# Altium footprint library WB-AV-4510-DAQ.PcbLib: 6 footprints
Each footprint in its own frame and in the unit in brackets; x right, y up, seen from the top. Pads: shape width x height; smd on the part's side, far side on the other; paste and mask are expansions set on the pad; w line width, h text height; cw(c..) or ccw(c..) is an arc to the next point about the centre after c.
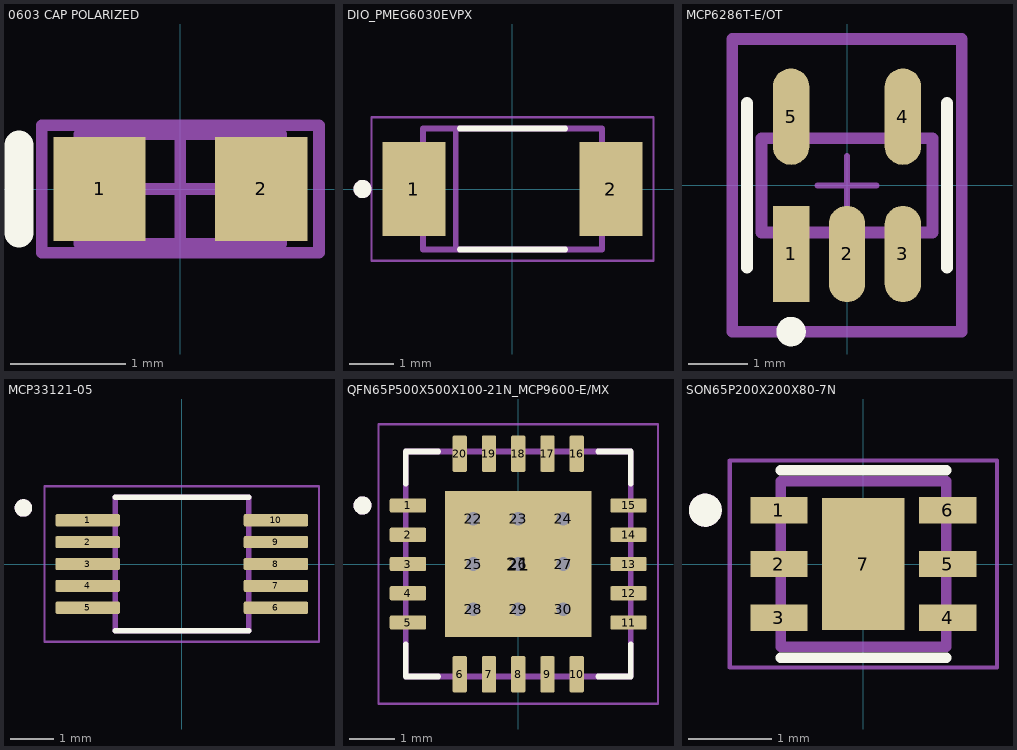
[diagram p0: the footprints below, top view; thin cyan lines are the x and y axes]

## 0603 CAP POLARIZED [mm] "Chip Capacitor, Body 1.6x0.8mm, IPC High Density"
height 1.3
pads (2):
  rect 0.8x0.9 smd: 1(-0.7,0) 2(0.7,0)
Top Overlay:
  lines w0.254: -1.397,-0.381 -1.397,0.381
Mechanical 13:
  lines w0.1: -0.875,-0.475 0.875,-0.475 0.875,0.475 -0.875,0.475 -0.875,-0.475
Mechanical 15:
  lines w0.1: -0.475,0 0.475,0 ; 0,-0.475 0,0.475 ; -1.2,-0.55 1.2,-0.55 1.2,0.55 -1.2,0.55 -1.2,-0.55
3D body: height 1.3, standoff 0, extent -0.875,-0.475 0.875,0.475

## DIO_PMEG6030EVPX [mm]
pads (2):
  rect 1.4x2.1 smd paste-2: 1(-2.2,0) 2(2.2,0)
Top Overlay:
  circle w0.2: c-3.35,0 r0.1
  lines w0.127: -1.18,-1.35 1.18,-1.35 ; -1.18,1.35 1.18,1.35
Top Paste:
  region: 2.8,-0.95 1.6,-0.95 1.6,0.95 2.8,0.95
  region: -1.6,-0.95 -2.8,-0.95 -2.8,0.95 -1.6,0.95
Mechanical 13:
  circle w0.2: c-3.35,0 r0.1
  lines w0.127: -1.27,-1.27 -1.27,1.27 ; -2,-1.35 2,-1.35 2,1.35 -2,1.35 -2,-1.35
Mechanical 15:
  lines w0.05: -3.15,-1.6 3.15,-1.6 3.15,1.6 -3.15,1.6 -3.15,-1.6

## MCP6286T-E/OT [mil]
pads (5):
  rect 24.33x64.5 smd paste+0 mask+0: 1(-37.4,-45.91)
  rrect100% 24.33x64.5 smd paste+0 mask+0: 2(0,-45.91) 3(37.4,-45.91) 4(37.4,45.91) 5(-37.4,45.91)
Top Overlay:
  circle w9.84: c-37.4,-97.85 r4.92
  lines w7.87: -66.93,-55.12 -66.93,55.12 ; 66.93,-55.12 66.93,55.12
Top 3D Body:
  lines w7.87: -57.09,-31.5 57.09,-31.5 57.09,31.5 -57.09,31.5 -57.09,-31.5
Top Courtyard:
  lines w7.87: -76.77,-97.85 76.77,-97.85 76.77,97.85 -76.77,97.85 -76.77,-97.85
Top Assembly:
  lines w7.87: -76.77,-97.85 76.77,-97.85 76.77,97.85 -76.77,97.85 -76.77,-97.85
Top Component Center:
  lines w3.94: -19.68,0 19.68,0 ; 0,-19.68 0,19.68
3D body "OT.STEP": height 57.09, standoff 0, extent -57.09,-53.15 57.09,53.15

## MCP33121-05 [mm]
pads (10):
  rrect25% 1.47x0.28 smd: 1(-2.15,1) 2(-2.15,0.5) 3(-2.15,0) 4(-2.15,-0.5) 5(-2.15,-1) 6(2.15,-1) 7(2.15,-0.5) 8(2.15,0) 9(2.15,0.5) 10(2.15,1)
Top Overlay:
  circle w0.2: c-3.62,1.28 r0.1
  lines w0.127: -1.525,-1.525 1.525,-1.525 ; -1.525,1.525 1.525,1.525
Mechanical 13:
  circle w0.2: c-3.62,1.28 r0.1
  lines w0.127: -1.525,-1.525 1.525,-1.525 1.525,1.525 -1.525,1.525 -1.525,-1.525
Mechanical 15:
  lines w0.05: -3.135,-1.775 3.135,-1.775 3.135,1.775 -3.135,1.775 -3.135,-1.775
3D body "msop-10.STEP": height 1.15, standoff 0, extent -2.45,-1.5 2.45,1.5

## QFN65P500X500X100-21N_MCP9600-E/MX [mm]
pads (30):
  rrect25% 0.81x0.32 smd: 1(-2.45,1.3) 2(-2.45,0.65) 3(-2.45,0) 4(-2.45,-0.65) 5(-2.45,-1.3) 11(2.45,-1.3) 12(2.45,-0.65) 13(2.45,0) 14(2.45,0.65) 15(2.45,1.3)
  rrect25% 0.32x0.81 smd: 6(-1.3,-2.45) 7(-0.65,-2.45) 8(0,-2.45) 9(0.65,-2.45) 10(1.3,-2.45) 16(1.3,2.45) 17(0.65,2.45) 18(0,2.45) 19(-0.65,2.45) 20(-1.3,2.45)
  rect 3.25x3.25 smd paste-3: 21(0,0)
  round 0.5 hole 0.3: 22(-1,1) 23(0,1) 24(1,1) 25(-1,0) 26(0,0) 27(1,0) 28(-1,-1) 29(0,-1) 30(1,-1)
Top Overlay:
  circle w0.2: c-3.46,1.3 r0.1
  lines w0.127: -2.5,-1.78 -2.5,-2.5 -1.78,-2.5 ; -2.5,1.78 -2.5,2.5 -1.78,2.5 ; 1.78,-2.5 2.5,-2.5 2.5,-1.78 ; 1.78,2.5 2.5,2.5 2.5,1.78
Top Paste:
  region: 1.15,-1.15 -1.15,-1.15 -1.15,1.15 1.15,1.15
Mechanical 13:
  circle w0.2: c-3.46,1.3 r0.1
  lines w0.127: -2.5,-2.5 -2.5,2.5 2.5,2.5 2.5,-2.5 -2.5,-2.5
Mechanical 15:
  lines w0.05: -3.105,-3.105 -3.105,3.105 3.105,3.105 3.105,-3.105 -3.105,-3.105
3D body: height 1, standoff 0, extent -2.413,-2.413 2.413,2.413

## SON65P200X200X80-7N [mm]
pads (7):
  rect 0.69x0.32 smd: 1(-1.02,0.65) 2(-1.02,0) 3(-1.02,-0.65) 4(1.02,-0.65) 5(1.02,0) 6(1.02,0.65)
  rect 1x1.6 smd paste-2: 7(0,0)
Top Overlay:
  circle w0.2: c-1.91,0.65 r0.1
  lines w0.127: -1,-1.13 1,-1.13 ; -1,1.13 1,1.13
Top Paste:
  region: 0.316,-0.506 -0.316,-0.506 -0.316,0.506 0.316,0.506
Mechanical 13:
  circle w0.2: c-1.91,0.65 r0.1
  lines w0.127: -1,-1 -1,1 1,1 1,-1 -1,-1
Mechanical 15:
  lines w0.05: -1.615,-1.25 -1.615,1.25 1.615,1.25 1.615,-1.25 -1.615,-1.25
3D body "step_temp.STEP": height 0.8, standoff 0, extent -1,-1 1,1